# Altium footprint library Nichicon_CapPolEl.PcbLib: 7 footprints
Each footprint in its own frame and in the unit in brackets; x right, y up, seen from the top. Pads: shape width x height; smd on the part's side, far side on the other; paste and mask are expansions set on the pad; w line width, h text height; cw(c..) or ccw(c..) is an arc to the next point about the centre after c.
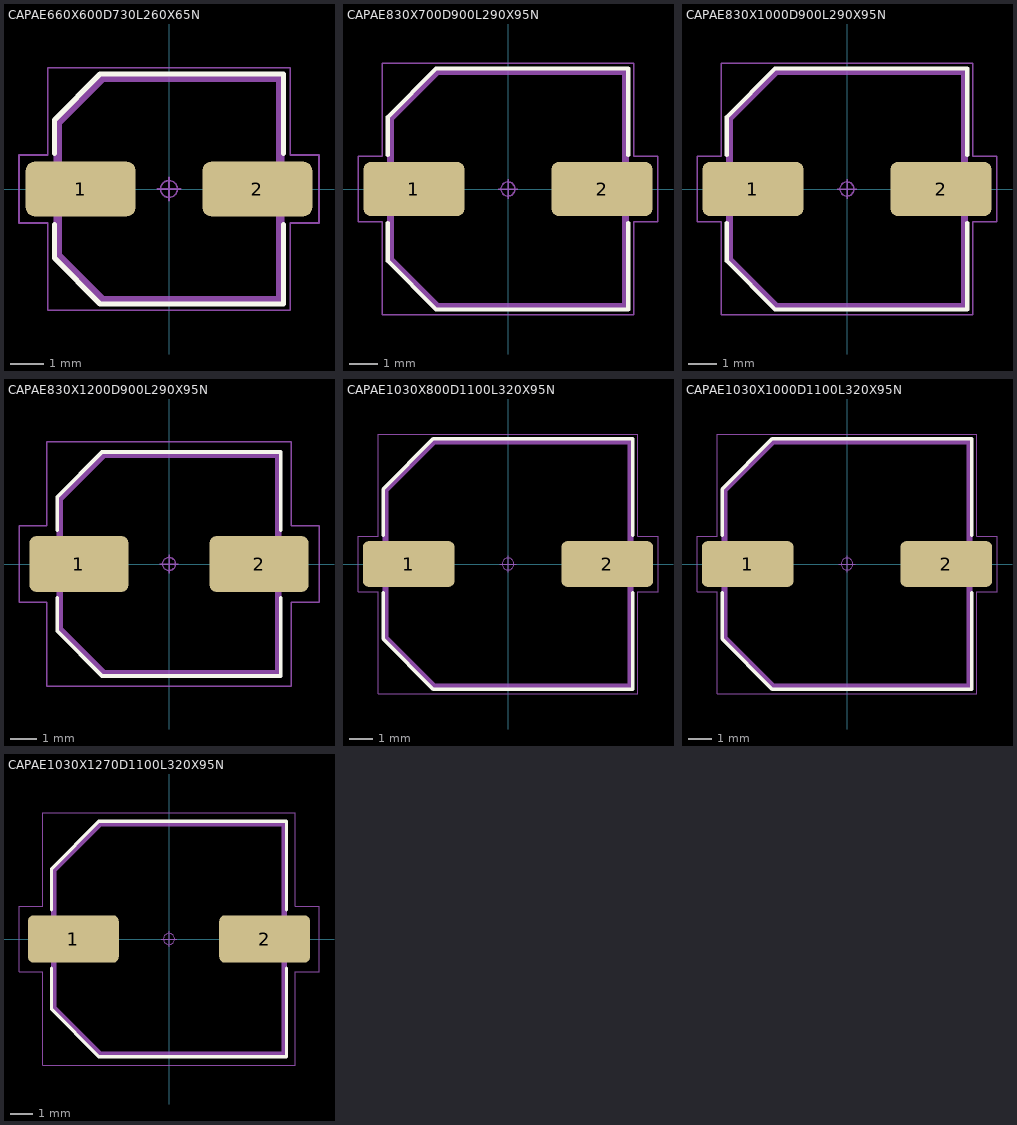
[diagram p0: the footprints below, top view; thin cyan lines are the x and y axes]

## CAPAE660X600D730L260X65N [mm] "Capacitor, Aluminum Electrolytic; 6.60 mm L X 6.60 mm W X 6.00 mm H body"
height 6
pads (2):
  rrect31% 3.26x1.62 smd: 1(-2.625,0) 2(2.625,0)
Top Overlay:
  lines w0.15: -3.4,-1.05 -3.4,-2.05 -2.05,-3.415 3.4,-3.415 3.4,-1.05 ; -3.4,1.05 -3.4,2.05 -2.05,3.415 3.4,3.415 3.4,1.05
Top Assembly:
  lines w0.25: -3.3,-1.98 -1.98,-3.3 3.3,-3.3 3.3,3.3 -1.98,3.3 -3.3,1.98 -3.3,-1.98
  text ".Designator" at 0,0 h1.5
Top Courtyard:
  circle w0.05: c0,0 r0.25
  lines w0.05: -0.35,0 0.35,0 ; 0,-0.35 0,0.35 ; -4.455,-1.01 -4.455,1.01 -3.6,1.01 -3.6,3.6 3.6,3.6 3.6,1.01 4.455,1.01 4.455,-1.01 3.6,-1.01 3.6,-3.6 -3.6,-3.6 -3.6,-1.01 -4.455,-1.01
3D body "CAPAE660X600D730L260X65.STEP": height 6, standoff 0, extent -3.65,-3.3 3.65,3.3

## CAPAE830X700D900L290X95N [mm] "Capacitor, Aluminum Electrolytic; 8.30 mm L X 8.30 mm W X 7.00 mm H body"
height 7
pads (2):
  rrect26% 3.56x1.92 smd: 1(-3.325,0) 2(3.325,0)
Top Overlay:
  lines w0.15: -4.25,-1.2 -4.25,-2.55 -2.55,-4.265 4.25,-4.265 4.25,-1.2 ; -4.25,1.2 -4.25,2.55 -2.55,4.265 4.25,4.265 4.25,1.2
Top Assembly:
  lines w0.25: -4.15,-2.49 -4.15,2.49 -2.49,4.15 4.15,4.15 4.15,-4.15 -2.49,-4.15 -4.15,-2.49
  text ".Designator" at 0,0 h1.5
Top Courtyard:
  circle w0.05: c0,0 r0.25
  lines w0.05: -0.35,0 0.35,0 ; 0,-0.35 0,0.35 ; -5.305,-1.16 -4.45,-1.16 -4.45,-4.45 4.45,-4.45 4.45,-1.16 5.305,-1.16 5.305,1.16 4.45,1.16 4.45,4.45 -4.45,4.45 -4.45,1.16 -5.305,1.16 -5.305,-1.16
3D body "CAPAE830X700D900L290X95.STEP": height 7, standoff 0, extent -4.5,-4.15 4.5,4.15

## CAPAE830X1000D900L290X95N [mm] "Capacitor, Aluminum Electrolytic; 8.30 mm L X 8.30 mm W X 10.00 mm H body"
height 10
pads (2):
  rrect26% 3.56x1.92 smd: 1(-3.325,0) 2(3.325,0)
Top Overlay:
  lines w0.15: -4.25,-1.2 -4.25,-2.55 -2.55,-4.265 4.25,-4.265 4.25,-1.2 ; -4.25,1.2 -4.25,2.55 -2.55,4.265 4.25,4.265 4.25,1.2
Top Assembly:
  lines w0.25: -4.15,-2.49 -4.15,2.49 -2.49,4.15 4.15,4.15 4.15,-4.15 -2.49,-4.15 -4.15,-2.49
  text ".Designator" at 0,0 h1.5
Top Courtyard:
  circle w0.05: c0,0 r0.25
  lines w0.05: -0.35,0 0.35,0 ; 0,-0.35 0,0.35 ; -5.305,-1.16 -4.45,-1.16 -4.45,-4.45 4.45,-4.45 4.45,-1.16 5.305,-1.16 5.305,1.16 4.45,1.16 4.45,4.45 -4.45,4.45 -4.45,1.16 -5.305,1.16 -5.305,-1.16
3D body "CAPAE830X1000D900L290X95.STEP": height 10, standoff 0, extent -4.5,-4.15 4.5,4.15

## CAPAE830X1200D900L290X95N [mm] "Capacitor, Aluminum Electrolytic; 8.30 mm L X 8.30 mm W X 12.00 mm H body"
height 12
pads (2):
  rrect24% 3.76x2.12 smd: 1(-3.425,0) 2(3.425,0)
Top Overlay:
  lines w0.15: -4.25,-1.3 -4.25,-2.55 -2.55,-4.265 4.25,-4.265 4.25,-1.3 ; -4.25,1.3 -4.25,2.55 -2.55,4.265 4.25,4.265 4.25,1.3
Top Assembly:
  lines w0.25: -4.15,-2.49 -4.15,2.49 -2.49,4.15 4.15,4.15 4.15,-4.15 -2.49,-4.15 -4.15,-2.49
  text ".Designator" at 0,0 h1.5
Top Courtyard:
  circle w0.05: c0,0 r0.25
  lines w0.05: -0.35,0 0.35,0 ; 0,-0.35 0,0.35 ; -5.705,-1.46 -4.65,-1.46 -4.65,-4.65 4.65,-4.65 4.65,-1.46 5.705,-1.46 5.705,1.46 4.65,1.46 4.65,4.65 -4.65,4.65 -4.65,1.46 -5.705,1.46 -5.705,-1.46
3D body "CAPAE830X1200D900L290X95.STEP": height 12, standoff 0, extent -4.5,-4.15 4.5,4.15

## CAPAE1030X800D1100L320X95N [mm] "Capacitor, Aluminum Electrolytic; 10.30 mm L X 10.30 mm W X 8.00 mm H body"
height 8
pads (2):
  rrect26% 3.86x1.92 smd: 1(-4.175,0) 2(4.175,0)
Top Overlay:
  lines w0.15: -5.25,-1.2 -5.25,-3.15 -3.15,-5.265 5.25,-5.265 5.25,-1.2 ; -5.25,1.2 -5.25,3.15 -3.15,5.265 5.25,5.265 5.25,1.2
Top Assembly:
  lines w0.25: -5.15,-3.09 -5.15,3.09 -3.09,5.15 5.15,5.15 5.15,-5.15 -3.09,-5.15 -5.15,-3.09
  text ".Designator" at 0,0 h1.5
Top Courtyard:
  circle w0.05: c0,0 r0.25
  lines w0.05: -0.35,0 0.35,0 ; 0,-0.35 0,0.35 ; -6.305,-1.16 -5.45,-1.16 -5.45,-5.45 5.45,-5.45 5.45,-1.16 6.305,-1.16 6.305,1.16 5.45,1.16 5.45,5.45 -5.45,5.45 -5.45,1.16 -6.305,1.16 -6.305,-1.16
3D body "CAPAE1030X800D1100L320X95.STEP": height 8, standoff 0, extent -5.5,-5.15 5.5,5.15

## CAPAE1030X1000D1100L320X95N [mm] "Capacitor, Aluminum Electrolytic; 10.30 mm L X 10.30 mm W X 10.00 mm H body"
height 10
pads (2):
  rrect26% 3.86x1.92 smd: 1(-4.175,0) 2(4.175,0)
Top Overlay:
  lines w0.15: -5.25,-1.2 -5.25,-3.15 -3.15,-5.265 5.25,-5.265 5.25,-1.2 ; -5.25,1.2 -5.25,3.15 -3.15,5.265 5.25,5.265 5.25,1.2
Top Assembly:
  lines w0.25: -5.15,-3.09 -5.15,3.09 -3.09,5.15 5.15,5.15 5.15,-5.15 -3.09,-5.15 -5.15,-3.09
  text ".Designator" at 0,0 h1.5
Top Courtyard:
  circle w0.05: c0,0 r0.25
  lines w0.05: -0.35,0 0.35,0 ; 0,-0.35 0,0.35 ; -6.305,-1.16 -5.45,-1.16 -5.45,-5.45 5.45,-5.45 5.45,-1.16 6.305,-1.16 6.305,1.16 5.45,1.16 5.45,5.45 -5.45,5.45 -5.45,1.16 -6.305,1.16 -6.305,-1.16
3D body "CAPAE1030X1000D1100L320X95.STEP": height 10, standoff 0, extent -5.5,-5.15 5.5,5.15

## CAPAE1030X1270D1100L320X95N [mm] "Capacitor, Aluminum Electrolytic; 10.30 mm L X 10.30 mm W X 12.70 mm H body"
height 12.7
pads (2):
  rrect24% 4.06x2.12 smd: 1(-4.275,0) 2(4.275,0)
Top Overlay:
  lines w0.15: -5.25,-1.3 -5.25,-3.15 -3.15,-5.265 5.25,-5.265 5.25,-1.3 ; -5.25,1.3 -5.25,3.15 -3.15,5.265 5.25,5.265 5.25,1.3
Top Assembly:
  lines w0.25: -5.15,-3.09 -5.15,3.09 -3.09,5.15 5.15,5.15 5.15,-5.15 -3.09,-5.15 -5.15,-3.09
  text ".Designator" at 0,0 h1.5
Top Courtyard:
  circle w0.05: c0,0 r0.25
  lines w0.05: -0.35,0 0.35,0 ; 0,-0.35 0,0.35 ; -6.705,-1.46 -5.65,-1.46 -5.65,-5.65 5.65,-5.65 5.65,-1.46 6.705,-1.46 6.705,1.46 5.65,1.46 5.65,5.65 -5.65,5.65 -5.65,1.46 -6.705,1.46 -6.705,-1.46
3D body "CAPAE1030X1270D1100L320X95.STEP": height 12.7, standoff 0, extent -5.5,-5.15 5.5,5.15